# EAGLE library part GS1011MIPS (library Pinoccio)
Gainspan GS1011MIPS Wifi Module
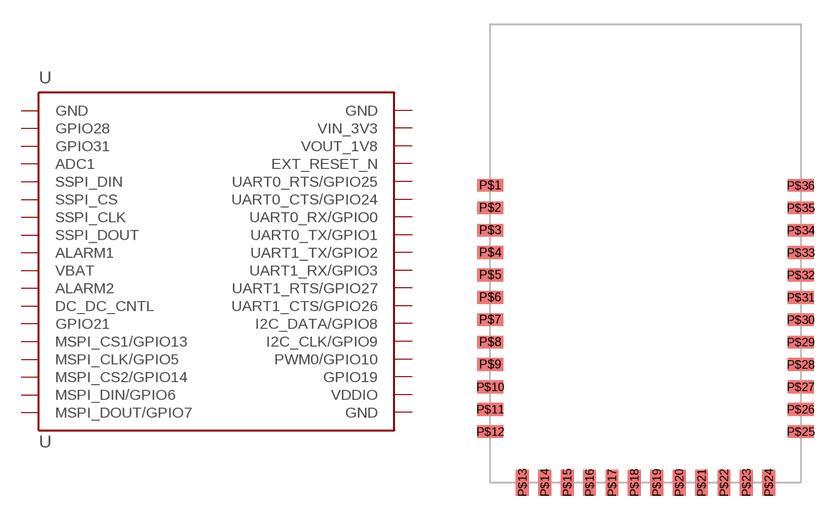
[diagram p5: symbol with the pads of GS1011MIPS; footprint GS1011MIPS]

Designator prefix -

## GS1011MIPS  [GS1011MIPS]
P$1  GND
P$2  GPIO28
P$3  GPIO31
P$4  ADC1
P$5  SSPI_DIN
P$6  SSPI_CS
P$7  SSPI_CLK
P$8  SSPI_DOUT
P$9  ALARM1
P$10  VBAT
P$11  ALARM2
P$12  DC_DC_CNTL
P$13  GPIO21
P$14  MSPI_CS1/GPIO13
P$15  MSPI_CLK/GPIO5
P$16  MSPI_CS2/GPIO14
P$17  MSPI_DIN/GPIO6
P$18  MSPI_DOUT/GPIO7
P$19  GND
P$20  VDDIO
P$21  GPIO19
P$22  PWM0/GPIO10
P$23  I2C_CLK/GPIO9
P$24  I2C_DATA/GPIO8
P$25  UART1_CTS/GPIO26
P$26  UART1_RTS/GPIO27
P$27  UART1_RX/GPIO3
P$28  UART1_TX/GPIO2
P$29  UART0_TX/GPIO1
P$30  UART0_RX/GPIO0
P$31  UART0_CTS/GPIO24
P$32  UART0_RTS/GPIO25
P$33  EXT_RESET_N
P$34  VOUT_1V8
P$35  VIN_3V3
P$36  GND

## Footprint GS1011MIPS (pad centres in mm)
smd 1.6 x 0.8: P$1 0,18.6; P$2 0,17.2; P$3 0,15.8; P$4 0,14.4; P$5 0,13; P$6 0,11.6; P$7 0,10.2; P$8 0,8.8; P$9 0,7.4; P$10 0,6; P$11 0,4.6; P$12 0,3.2; P$25 19.4,3.2; P$26 19.4,4.6; P$27 19.4,6; P$28 19.4,7.4; P$29 19.4,8.8; P$30 19.4,10.2; P$31 19.4,11.6; P$32 19.4,13; P$33 19.4,14.4; P$34 19.4,15.8; P$35 19.4,17.2; P$36 19.4,18.6
smd 0.8 x 1.6: P$13 2,0; P$14 3.4,0; P$15 4.8,0; P$16 6.2,0; P$17 7.6,0; P$18 9,0; P$19 10.4,0; P$20 11.8,0; P$21 13.2,0; P$22 14.6,0; P$23 16,0; P$24 17.4,0